# Altium schematic symbol library DSO.SCHLIB: 37 symbols
Pins are listed as number, name and electrical type; pins without a type are passive.

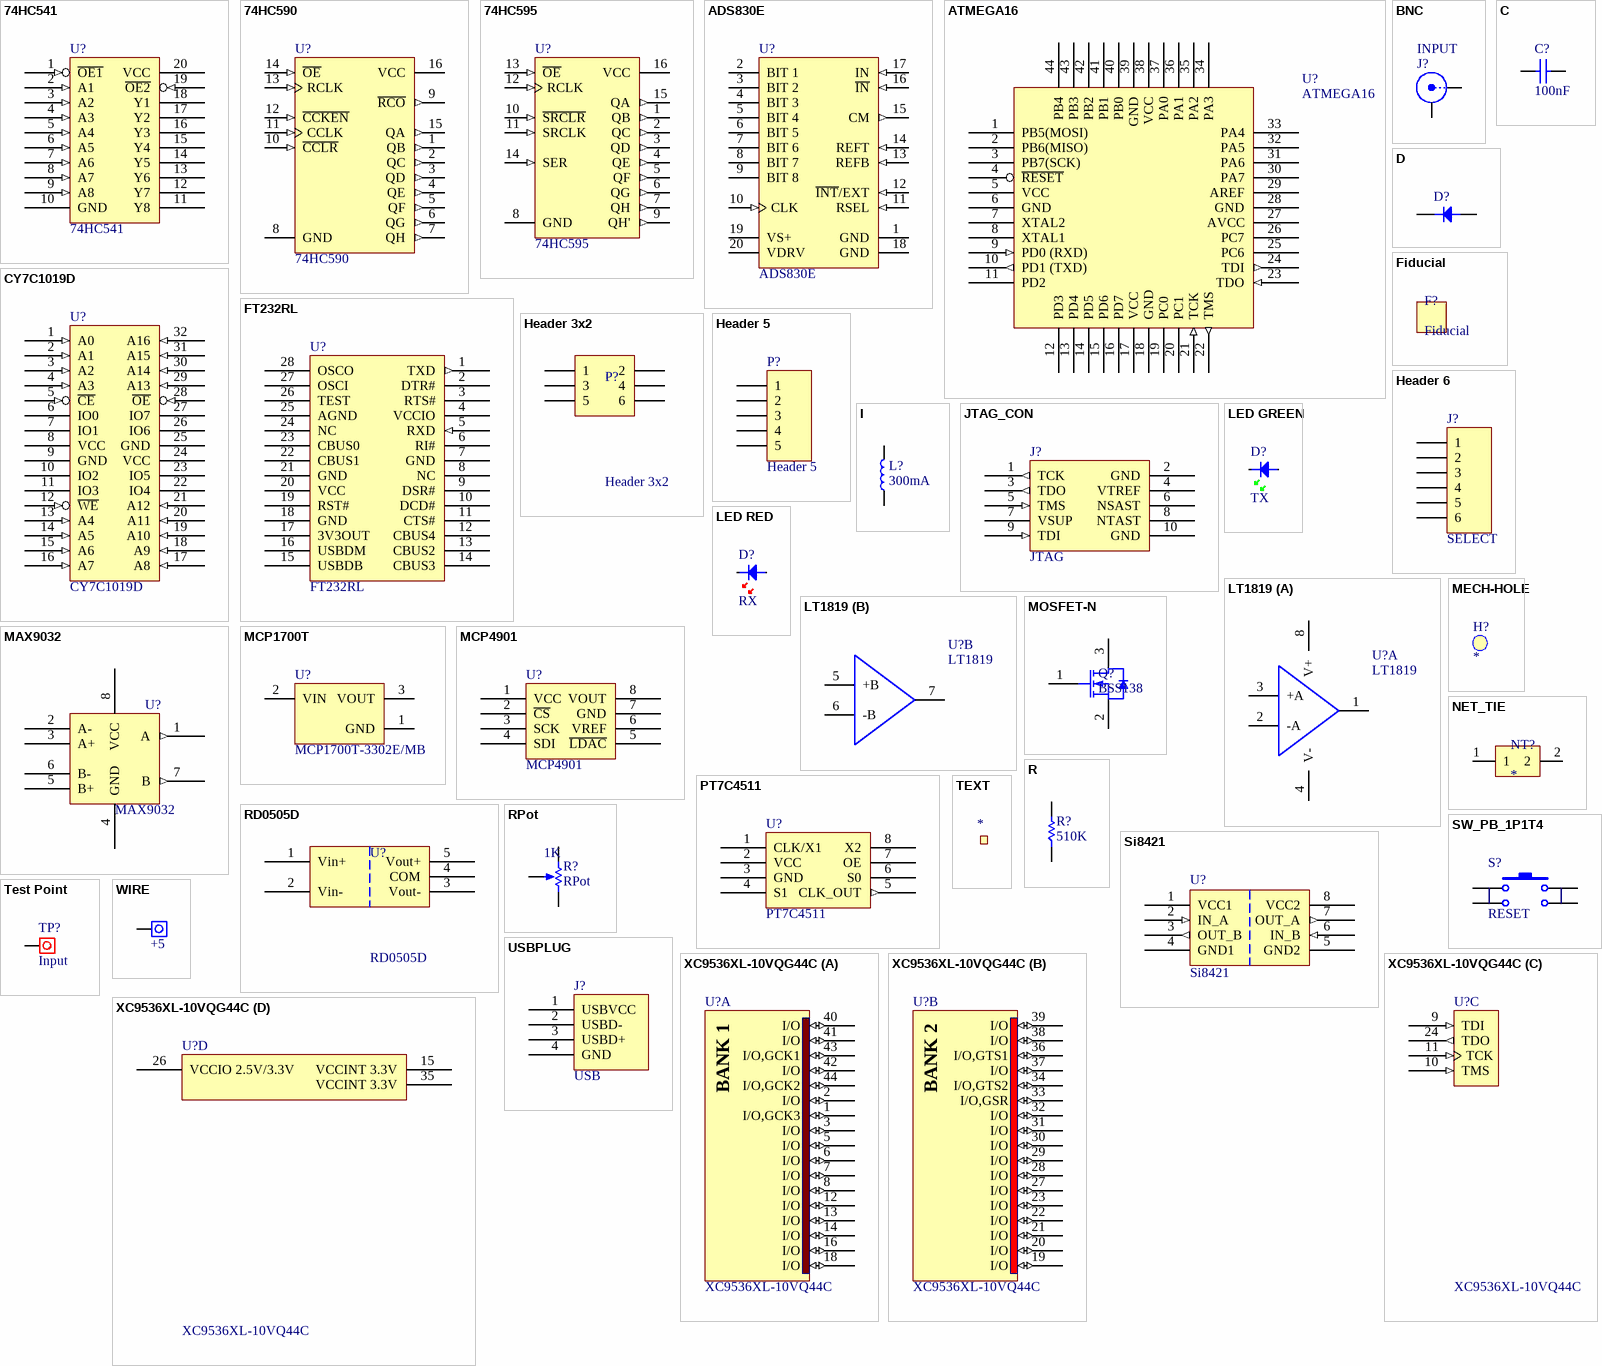
[diagram p0: symbols 74HC541 to XC9536XL-10VQG44C]

## 74HC541
designator U?
(ADV) Octal Buffer, Line Driver; Reviewed by: RM - 2018/08/05; Supplier 1: Digi-Key; Supplier Part Number 1: 296-1202-1-ND
footprint SOT163-1_N (SOIC, 20-Leads, Body 12.7x7.5mm, Pitch 1.27mm, IPC Medium Density)
pins: 1 ~{OE1} (in), 2 A1 (in), 3 A2 (in), 4 A3 (in), 5 A4 (in), 6 A5 (in), 7 A6 (in), 8 A7 (in), 9 A8 (in), 10 GND (power), 11 Y8 (hiz), 12 Y7 (hiz), 13 Y6 (hiz), 14 Y5 (hiz), 15 Y4 (hiz), 16 Y3 (hiz), 17 Y2 (hiz), 18 Y1 (hiz), 19 ~{OE2} (in), 20 VCC (power)

## 74HC590
designator U?
8-Bit Binary Counter Register; Reviewed by: RM - 2018/08/05; ComponentLink1Description: Manufacturer Link; ComponentLink1URL: http://www.st.com/; ComponentLink2Description: Datasheet; ComponentLink2URL: http://www.st.com/stonline/products/literature/ds/1986/m74hc590.pdf; Supplier 1: Digi-Key; Supplier Part Number 1: 296-17132-1-ND
footprint SOIC-16 (SOIC-16 Footprint)
pins: 1 QB (out), 2 QC (out), 3 QD (out), 4 QE (out), 5 QF (out), 6 QG (out), 7 QH (out), 8 GND (power), 9 ~{RCO} (out), 10 ~{CCLR} (in), 11 CCLK (in), 12 ~{CCKEN} (in), 13 RCLK (in), 14 ~{OE} (in), 15 QA (out), 16 VCC (power)

## 74HC595
designator U?
(ADV)  8 Bit Shift Register; ComponentLink1Description: Manufacturer Link; ComponentLink1URL: http://www.st.com/; ComponentLink2Description: Datasheet; ComponentLink2URL: http://www.st.com/stonline/products/literature/ds/1989/m74hc595.pdf; Supplier 1: *; Supplier Part Number 1: *; Reviewed by: *
footprint SOIC-16 (SOIC-16 Footprint)
pins: 1 QB (out), 2 QC (out), 3 QD (out), 4 QE (out), 5 QF (out), 6 QG (out), 7 QH (out), 8 GND (power), 9 QH' (out), 10 ~{SRCLR} (in), 11 SRCLK (in), 12 RCLK (in), 13 ~{OE} (in), 14 SER (in), 15 QA (out), 16 VCC (power)

## ADS830E
designator U?
8-Bit, 60 MSPS ADC Single-Ended / Differential Input, Internal / External Reference and Programmble Input Range, -40 to 85 degC, 20-pin SOP (DBQ20), Green (RoHS & no Sb/Br); Reviewed by: RM - 2018/08/05; ComponentLink2URL: http://www.ti.com/general/docs/lit/getliterature.tsp?genericPartNumber=ADS830&fileType=pdf; ComponentLink2Description: Datasheet; ComponentLink1URL: http://www.ti.com/; ComponentLink3URL: http://www.ti.com/litv/pdf/mpds210a; ComponentLink3Description: Package Specification; ComponentLink1Description: Manufacturer URL; Supplier 1: Digi-Key; Supplier Part Number 1: ADS830E-ND
footprint TI-DBQ20_L (SOP, 20-Leads, Body 8.65x3.9mm, Pitch 0.635mm, IPC High Density)
pins: 1 GND (power) "Ground", 2 BIT 1 (hiz) "Data Bit 1 (D7) (MSB)", 3 BIT 2 (hiz) "Data Bit 2 (D6)", 4 BIT 3 (hiz) "Data Bit 3 (D5)", 5 BIT 4 (hiz) "Data Bit 4 (D4)", 6 BIT 5 (hiz) "Data Bit 5 (D3)", 7 BIT 6 (hiz) "Data Bit 6 (D2)", 8 BIT 7 (hiz) "Data Bit 7 (D1)", 9 BIT 8 (hiz) "Data Bit 8 (D0) (LSB)", 10 CLK (in) "Convert Clock", 11 RSEL (in) "Input Range Select: HI = 2V; LO = 1V", 12 ~{INT}/EXT (in) "Reference Select: HI = External; LO = Internal", 13 REFB (in) "Bottom Reference", 14 REFT (in) "Top Reference", 15 CM (out) "Common-Mode Voltage Output", 16 ~{IN} (in) "Complementary Input", 17 IN (in) "Analog Input", 18 GND (power) "Ground", 19 VS+ (power) "+5V Supply", 20 VDRV (power) "Output Logic Driver Supply Voltage"

## ATMEGA16
designator U?
ATMEGA16 Microcontroller; Reviewed by: RM - 2018/08/05; Supplier 1: Digi-Key; Supplier Part Number 1: ATMEGA16A-AU-ND
footprint QFP-48
pins: 1 PB5(MOSI), 2 PB6(MISO), 3 PB7(SCK), 4 ~{RESET}, 5 VCC, 6 GND, 7 XTAL2, 8 XTAL1, 9 PD0 (RXD) (in), 10 PD1 (TXD) (out), 11 PD2, 12 PD3, 13 PD4, 14 PD5, 15 PD6, 16 PD7, 17 VCC, 18 GND, 19 PC0, 20 PC1, 21 TCK (in), 22 TMS (out), 23 TDO (in), 24 TDI (out), 25 PC6, 26 PC7, 27 AVCC, 28 GND, 29 AREF, 30 PA7, 31 PA6, 32 PA5, 33 PA4, 34 PA3, 35 PA2, 36 PA1, 37 PA0, 38 VCC, 39 GND, 40 PB0, 41 PB1, 42 PB2, 43 PB3, 44 PB4

## BNC
designator J?, comment INPUT
BNC Straight; Reviewed by: RM - 2018/08/05; Supplier Part Number 1: A97581-ND; Supplier 1: Digi-Key
signal-integrity model Connector
footprint BNC_VERT (BNC vertical connector)
pins: 1 X, 2 Y, 3 Y, 4 Y, 5 Y

## C
designator C?, comment 100nF
Capacitor; Reviewed by: RM - 2018/08/05; Revision: July-2002: Re-released for DXP Platform.; Supplier 1: *; Supplier Part Number 1: *; Value: 100nF
simulation model CAP (Default semiconductor capacitor)
footprint 0805C (0805 Footprint)
pins: 1, 2

## CY7C1019D
designator U?
SRAM 128k x 8; Reviewed by: RM - 2018/08/05; Supplier 1: Digi-Key; Supplier Part Number 1: 428-1967-ND
footprint TSOP-32
pins: 1 A0 (in), 2 A1 (in), 3 A2 (in), 4 A3 (in), 5 ~{CE} (in), 6 IO0 (hiz), 7 IO1 (hiz), 8 VCC, 9 GND, 10 IO2 (hiz), 11 IO3 (hiz), 12 ~{WE} (in), 13 A4 (in), 14 A5 (in), 15 A6 (in), 16 A7 (in), 17 A8 (in), 18 A9 (in), 19 A10 (in), 20 A11 (in), 21 A12 (in), 22 IO4 (hiz), 23 IO5 (hiz), 24 VCC, 25 GND, 26 IO6 (hiz), 27 IO7 (hiz), 28 ~{OE} (in), 29 A13 (in), 30 A14 (in), 31 A15 (in), 32 A16 (in)

## D
designator D?, comment Diode  (value not drawn)
Reviewed by: RM - 2018/08/05; Revision: July-2002: Re-released for DXP Platform.; Supplier 1: *; Supplier Part Number 1: *
footprint SOD-123 (SMD diode)
simulation model DIODE (Default Diode)
pins: A, K

## Fiducial
designator F?  (no BOM)
Fiducial for pick and place machine
footprint FIDUCIAL (Fiducial for pick and place machines)

## FT232RL
designator U?
USB to Serial bridge; Reviewed by: RM - 2018/08/05; Supplier 1: Digi-Key; Supplier Part Number 1: 768-1007-1-ND
footprint SSOP-28 (Line Driver)
pins: 1 TXD (out), 2 DTR#, 3 RTS#, 4 VCCIO, 5 RXD (in), 6 RI#, 7 GND, 8 NC, 9 DSR#, 10 DCD#, 11 CTS#, 12 CBUS4, 13 CBUS2, 14 CBUS3, 15 USBDB, 16 USBDM, 17 3V3OUT, 18 GND, 19 RST#, 20 VCC, 21 GND, 22 CBUS1, 23 CBUS0, 24 NC, 25 AGND, 26 TEST, 27 OSCI, 28 OSCO

## Header 3x2
designator P?
Header, 5-Pin; Reviewed by: RM - 2018/08/05; Supplier 1: Digi-Key; Supplier Part Number 1: 952-2121-ND
signal-integrity model Connector
footprint HDR3x2 (Connector; Header; 8x2 Position)
pins: 1, 2, 3, 4, 5, 6

## Header 5
designator P?
Header, 5-Pin
footprint HDR1X5 (Connector; Header; 5 Position)
signal-integrity model Connector
pins: 1, 2, 3, 4, 5

## Header 6
designator J?, comment SELECT
Header, 6-Pin
footprint HDR1X6 (Connector; Header; 6 Position)
signal-integrity model Connector
pins: 1, 2, 3, 4, 5, 6

## I
designator L?, comment 300mA
Inductor; Reviewed by: RM - 2018/08/05; Supplier 1: *; Supplier Part Number 1: *; Value: 300mA
footprint 0805 (0805 Footprint)
pins: 1, 2

## JTAG_CON
designator J?, comment JTAG
JTAG_CON; Reviewed by: RM - 2018/08/05; Supplier 1: Digi-Key; Supplier Part Number 1: OR896-ND
footprint BOXEDVERT10 (IDC Header 2.54mm Boxed 10 pins)
pins: 1 TCK (out), 2 GND, 3 TDO (out), 4 VTREF (power), 5 TMS (in), 6 NSAST, 7 VSUP, 8 NTAST, 9 TDI (in), 10 GND

## LED GREEN
designator D?, comment TX
Light Emitting Diode; Reviewed by: RM - 2018/08/05; Revision: July-2002: Re-released for DXP Platform.; Supplier 1: Digi-Key; Supplier Part Number 1: 160-1423-1-ND
footprint 0805D-GREEN (0805 Diode)
pins: A, K

## LED RED
designator D?, comment RX
Light Emitting Diode; Reviewed by: RM - 2018/08/05; Revision: July-2002: Re-released for DXP Platform.; Supplier 1: Digi-Key; Supplier Part Number 1: 475-1415-1-ND
footprint 0805D-RED (0805 Diode RED)
pins: A, K

## LT1819
designator U?
OpAmp High Frequency Dual; Reviewed by: RM - 2018/08/05; Supplier 1: Digi-Key; Supplier Part Number 1: LT1819CMS8#PBF-ND
footprint SOIC-8 (SOIC-8 Footprint)
footprint MSOP-8 (TSOP, 8-Leads, Body 3.00x3.00mm, Pitch 0.65mm, IPC Low Density)
part A pins: 1 OUTA, 2 -A, 3 +A, 4 V-, 8 V+
part B pins: 5 +B, 6 -B, 7 OUTB

## MAX9032
designator U?
Dual Comparator; Reviewed by: RM - 2018/08/05; Supplier 1: Digi-Key; Supplier Part Number 1: MAX9032ASA-ND
footprint SOIC-8 (SOIC-8 Footprint)
pins: 1 A (out), 2 A-, 3 A+, 4 GND, 5 B+, 6 B-, 7 B (out), 8 VCC

## MCP1700T
designator U?, comment MCP1700T-3302E/MB
Low Quiescent Current LDO, 3-Pin SOT-89, Extended Temperature, Tape and Reel; Reviewed by: RM - 2018/08/05; Supplier 1: Digi-Key; Supplier Part Number 1: MCP1700T3302EMBCT-ND
footprint SOT89 (SOT89, 3-Leads, Body 4.50x2.50mm, Pitch 1.50mm, Lead Span 4.1mm, IPC Low Density)
pins: 1 GND (power), 2 VIN (power), 3 VOUT (power)

## MCP4901
designator U?
DAC 8bit SPI; Reviewed by: RM - 2018/08/05; Supplier 1: Digi-Key; Supplier Part Number 1: MCP4901-E/SN-ND
footprint SOIC-8 (SOIC-8 Footprint)
pins: 1 VCC, 2 ~{CS}, 3 SCK, 4 SDI, 5 ~{LDAC}, 6 VREF, 7 GND, 8 VOUT

## MECH-HOLE
designator H?  (no BOM)
Mechanical hole
footprint 3MM_HOLE (3mm hole)

## MOSFET-N
designator Q?, comment BSS138
N-Channel MOSFET; PackageDocument: 1995/1996; Published: 8-Jun-2000; LatestRevisionDate: 17-Jul-2002; LatestRevisionNote: Re-released for DXP Platform.; PackageReference: E3; Publisher: Altium Limited
footprint SOT23 (SOT23, 3-Leads, Body 3.0x2.5mm (max), Pitch 0.95mm, IPC Low Density)
pins: 1 G, 2 S, 3 D

## NET_TIE
designator NT?  (net tie, no BOM)
Net Tie
footprint NET_TIE (Net Tie for different GND)
pins: 1, 2

## PT7C4511
designator U?
PLL Clock Multiplier; Reviewed by: RM - 2018/08/05; Supplier 1: Digi-Key; Supplier Part Number 1: PT7C4511WEXDICT-ND
footprint SOIC-8 (SOIC-8 Footprint)
pins: 1 CLK/X1, 2 VCC, 3 GND, 4 S1, 5 CLK_OUT (out), 6 S0, 7 OE, 8 X2

## R
designator R?, comment 510K
Resistor; Reviewed by: RM - 2018/08/05; Supplier 1: *; Suppler Part Number 1: *; Value: 510K
footprint 0805 (0805 Footprint)
simulation model RES (Default semiconductor resistor)
pins: 1, 2

## RD0505D
designator U?
(ADV) DC to DC converter 5V in +-5V out; Reviewed by: RM - 2018/08/05; Supplier Part Number 1: 945-1136-ND; Supplier 1: Digi-Key
footprint SIP_NMG (SIP for NMG DC to DC)
pins: 1 Vin+, 2 Vin-, 3 Vout-, 4 COM, 5 Vout+

## RPot
designator R?  value 1K
Potentiometer; Sim Note: Enter the Resistance value and the set point into parameter fields.; Set Position: 0.5; Published: 8-Jun-2000; LatestRevisionDate: 17-Jul-2002; LatestRevisionNote: Re-released for DXP Platform.; PackageReference: VR5; Publisher: Altium Limited; PackageDescription: Variable Resistor, Thru-Hole; 3 Leads
footprint VR5 (Thru-Hole; 3 Leads)
pins: 1 TOP, 2 TAP, 3 BOT
1 alternate drawing of the same symbol

## Si8421
designator U?
Dual Channel Digital Isolator Both Ways; Reviewed by: RM - 2018/08/05; Supplier 1: Digi-Key; Supplier Part Number 1: 336-1755-5-ND
footprint SOIC-8 (SOIC-8 Footprint)
pins: 1 VCC1, 2 IN_A (in), 3 OUT_B (out), 4 GND1, 5 GND2, 6 IN_B (in), 7 OUT_A (out), 8 VCC2

## SW_PB_1P1T4
designator S?, comment RESET
Momentary Push Button Switch 1P 1T 2pins; Reviewed by: RM - 2018/08/05; Revision: July-2002: Re-released for DXP Platform.; Supplier 1: Digi-Key; Supplier Part Number 1: CKN9085CT-ND
footprint SPST PB SWITCH SMD (Push Button Switch Surface Mount)
pins: 1, 2, 3, 4

## Test Point
designator TP?, comment INPUT
Pad; Value: Input
footprint Testpoin (Testpoint)
pins: 1

## TEXT
designator *  (no BOM)
Use for Student Name and Student ID
footprint TEXT (Text appear on the pcb)

## USBPLUG
designator J?, comment USB
USB B Type Connector; Reviewed by: RM - 2018/08/05; Supplier 1: Digi-Key; Supplier Part Number 1: 609-1039-ND
footprint USBPLUG
pins: 1 USBVCC, 2 USBD-, 3 USBD+, 4 GND

## WIRE
designator TP?, comment +5
Pad
footprint PIN 1.8mm (Single Pin)
pins: 1

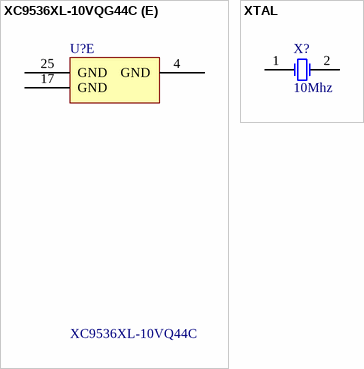
[diagram p1: symbols XC9536XL-10VQG44C to XTAL]

## XC9536XL-10VQG44C
designator U?, comment XC9536XL-10VQ44C
FastFLASH XC900XL, 3.3V High-Performance 36 Macrocell CPLD, 34 User I/Os, 44-Pin VQFP, Speed Grade 10, Commercial Grade; Reviewed by: RM - 2018/08/05; Supplier 1: Digi-Key; Supplier Part Number 1: 122-1385-ND
footprint VQ44_L (Thin QFP, 44-Leads, Body 10x10mm, Pitch 0.8mm, IPC High Density)
part A pins: 1 I/O,GCK3 (io), 2 I/O (io), 3 I/O (io), 5 I/O (io), 6 I/O (io), 7 I/O (io), 8 I/O (io), 12 I/O (io), 13 I/O (io), 14 I/O (io), 16 I/O (io), 18 I/O (io), 40 I/O (io), 41 I/O (io), 42 I/O (io), 43 I/O,GCK1 (io), 44 I/O,GCK2 (io)
part B pins: 19 I/O (io), 20 I/O (io), 21 I/O (io), 22 I/O (io), 23 I/O (io), 27 I/O (io), 28 I/O (io), 29 I/O (io), 30 I/O (io), 31 I/O (io), 32 I/O (io), 33 I/O,GSR (io), 34 I/O,GTS2 (io), 36 I/O,GTS1 (io), 37 I/O (io), 38 I/O (io), 39 I/O (io)
part C pins: 9 TDI (in), 10 TMS (in), 11 TCK (in), 24 TDO (out)
part D pins: 15 VCCINT 3.3V (power), 26 VCCIO 2.5V/3.3V (power), 35 VCCINT 3.3V (power)
part E pins: 4 GND (power), 17 GND (power), 25 GND (power)
part A text: BANK 1
part B text: BANK 2

## XTAL
designator X?, comment 10Mhz
Crystal Oscillator; Reviewed by: RM - 2018/08/05; Revision: July-2002: Re-released for DXP Platform.; Supplier 1: Digi-Key; Supplier Part Number 1: 887-1080-1-ND
simulation model XTAL (Spice Subcircuit)
footprint XTAL_FLAT_SMD
pins: 1 OSC1, 2 OSC2